# EAGLE library part MLX-2X3-PIN (library MRDT-2015-General)
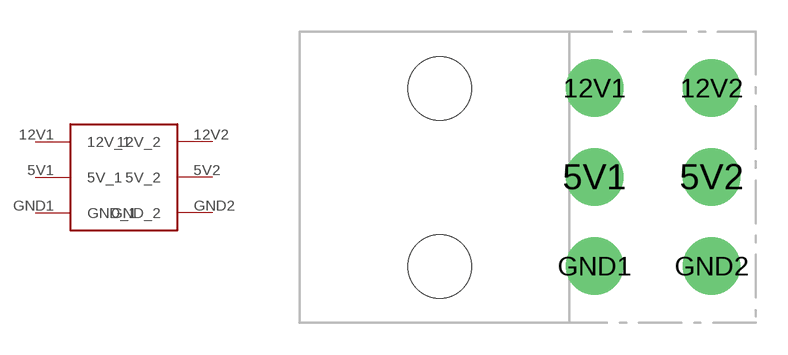
[diagram p8: symbol with the pads of MLX-2X3-PIN; footprint MLX-2X3-PIN]

Designator prefix -

## MLX-2X3-PIN  [MLX-2X3-PIN]
5V1  5V_1
5V2  5V_2
12V1  12V_1
12V2  12V_2
GND1  GND_1
GND2  GND_2

## Footprint MLX-2X3-PIN (pad centres in mm)
drill 1.803: 5V1 0,4.216; 5V2 5.512,4.216; 12V1 0,8.407; 12V2 5.512,8.407; GND1 0,0.025; GND2 5.512,0.025
hole 2.997 at -7.29,0
hole 2.997 at -7.29,8.382